# Altium footprint library MURATA_UWS.PcbLib: 1 footprints
Each footprint in its own frame and in the unit in brackets; x right, y up, seen from the top. Pads: shape width x height; smd on the part's side, far side on the other; paste and mask are expansions set on the pad; w line width, h text height; cw(c..) or ccw(c..) is an arc to the next point about the centre after c.
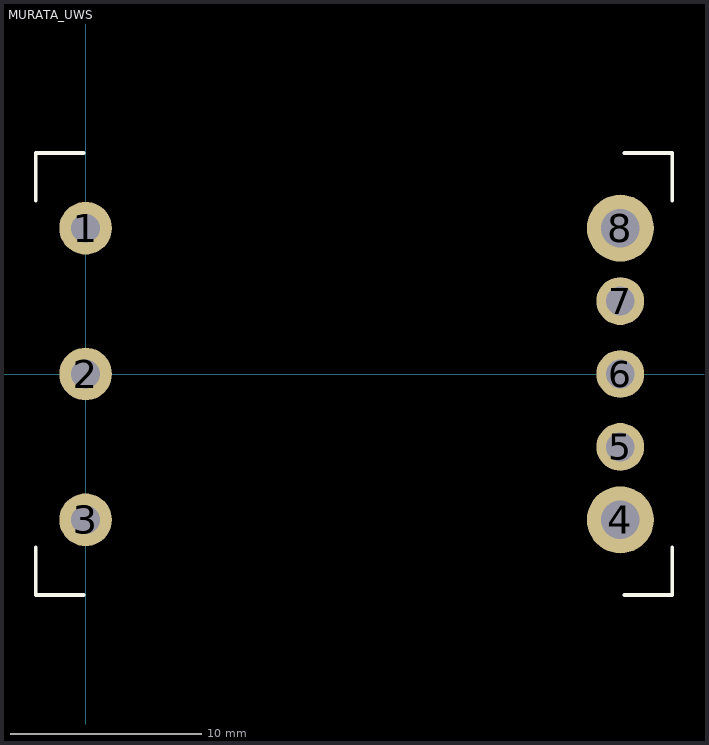
[diagram p0: the footprint, top view; thin cyan lines are the x and y axes]

## MURATA_UWS [mm] "Murata UWS 8-Pin 1/16 Brick module"
pads (8):
  round 2.75 hole 1.5: 1(0,7.62) 2(0,0) 3(0,-7.62)
  round 3.5 hole 2: 4(27.94,-7.62) 8(27.94,7.62)
  round 2.5 hole 1.5: 5(27.94,-3.81) 6(27.94,0) 7(27.94,3.81)
Top Overlay:
  lines w0.2: -2.6,-9.05 -2.6,-11.55 -0.1,-11.55 ; -2.6,9.05 -2.6,11.55 -0.1,11.55 ; 28.15,-11.55 30.65,-11.55 30.65,-9.05 ; 28.15,11.55 30.65,11.55 30.65,9.05
3D body "mps_dcdc_uws_a.sldprt": height 9.1, standoff -4.77, extent -2.602,-11.56 30.672,11.554